# Altium schematic symbol library 100KOHM.SCHLIB: 1 symbol
Pins are listed as number, name and electrical type; pins without a type are passive.

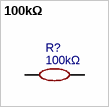
[diagram p0: symbol 100kΩ]

## 100kΩ
designator R?
Manufacturer: RALEC(旺诠); Manufacturer Part: RTT05104JTP; nameAlias: Value; Supplier: LCSC; Supplier Part: C103915; JLCPCB Part Class: Extended Part; spicePre: R; spiceSymbolName: RTT05104JTP
footprint R0805
pins: 1, 2